# EAGLE library part 7X_CON (library Bits_library_eagle)
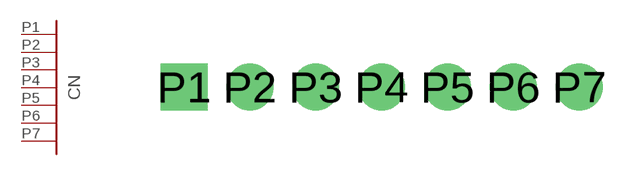
[diagram p70: symbol with the pads of 1X7-E; footprint 1X7-E]

Designator prefix CN

## 7X_CON  [1X7-E]
P1  1
P2  2
P3  3
P4  4
P5  5
P6  6
P7  7

## Footprint 1X7-E (pad centres in mm)
drill 1 pad 1.8 square: P1 -7.6,0
drill 1 pad 1.8: P2 -5.06,0; P3 -2.52,0; P4 0.02,0; P5 2.56,0; P6 5.1,0; P7 7.64,0